# EAGLE library part 2716-207/000-006 (library con-wago_2716)
Stand: 01.01.2014. Die jeweils aktuellen Daten zu diesem Artikel finden Sie in unserem Produktkatalog, den Sie unter www.wago.com einsehen können. As of: 01/01/2014. Please find the newest data for this article in our product catalogue, which can be viewed under www.wago.com.
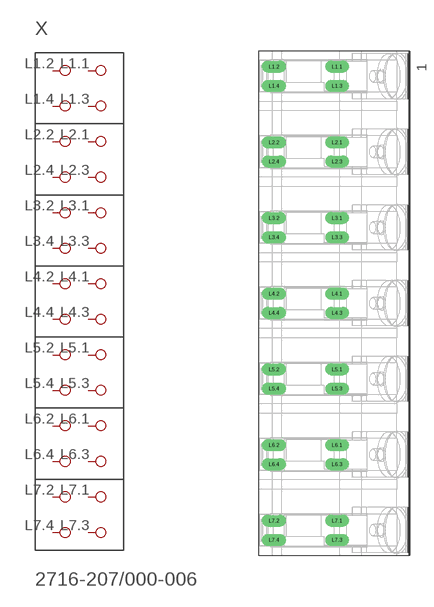
[diagram p26: symbol with the pads of P-2716-207; footprint P-2716-207]

Designator prefix X

## 2716-207/000-006  [P-2716-207]
L1.1  P1.1
L1.2  P1.2
L1.3  P1.3
L1.4  P1.4
L2.1  P2.1
L2.2  P2.2
L2.3  P2.3
L2.4  P2.4
L3.1  P3.1
L3.2  P3.2
L3.3  P3.3
L3.4  P3.4
L4.1  P4.1
L4.2  P4.2
L4.3  P4.3
L4.4  P4.4
L5.1  P5.1
L5.2  P5.2
L5.3  P5.3
L5.4  P5.4
L6.1  P6.1
L6.2  P6.2
L6.3  P6.3
L6.4  P6.4
L7.1  P7.1
L7.2  P7.2
L7.3  P7.3
L7.4  P7.4

## Footprint P-2716-207 (pad centres in mm)
drill 1.6 long: L1.1 0.6,46.9; L1.2 -11.9,46.9; L1.3 0.6,43.1; L1.4 -11.9,43.1; L2.1 0.6,31.9; L2.2 -11.9,31.9; L2.3 0.6,28.1; L2.4 -11.9,28.1; L3.1 0.6,16.9; L3.2 -11.9,16.9; L3.3 0.6,13.1; L3.4 -11.9,13.1; L4.1 0.6,1.9; L4.2 -11.9,1.9; L4.3 0.6,-1.9; L4.4 -11.9,-1.9; L5.1 0.6,-13.1; L5.2 -11.9,-13.1; L5.3 0.6,-16.9; L5.4 -11.9,-16.9; L6.1 0.6,-28.1; L6.2 -11.9,-28.1; L6.3 0.6,-31.9; L6.4 -11.9,-31.9; L7.1 0.6,-43.1; L7.2 -11.9,-43.1; L7.3 0.6,-46.9; L7.4 -11.9,-46.9